# Altium integrated library NSC MiscPower.IntLib: 742 symbols (part 7 of 19)
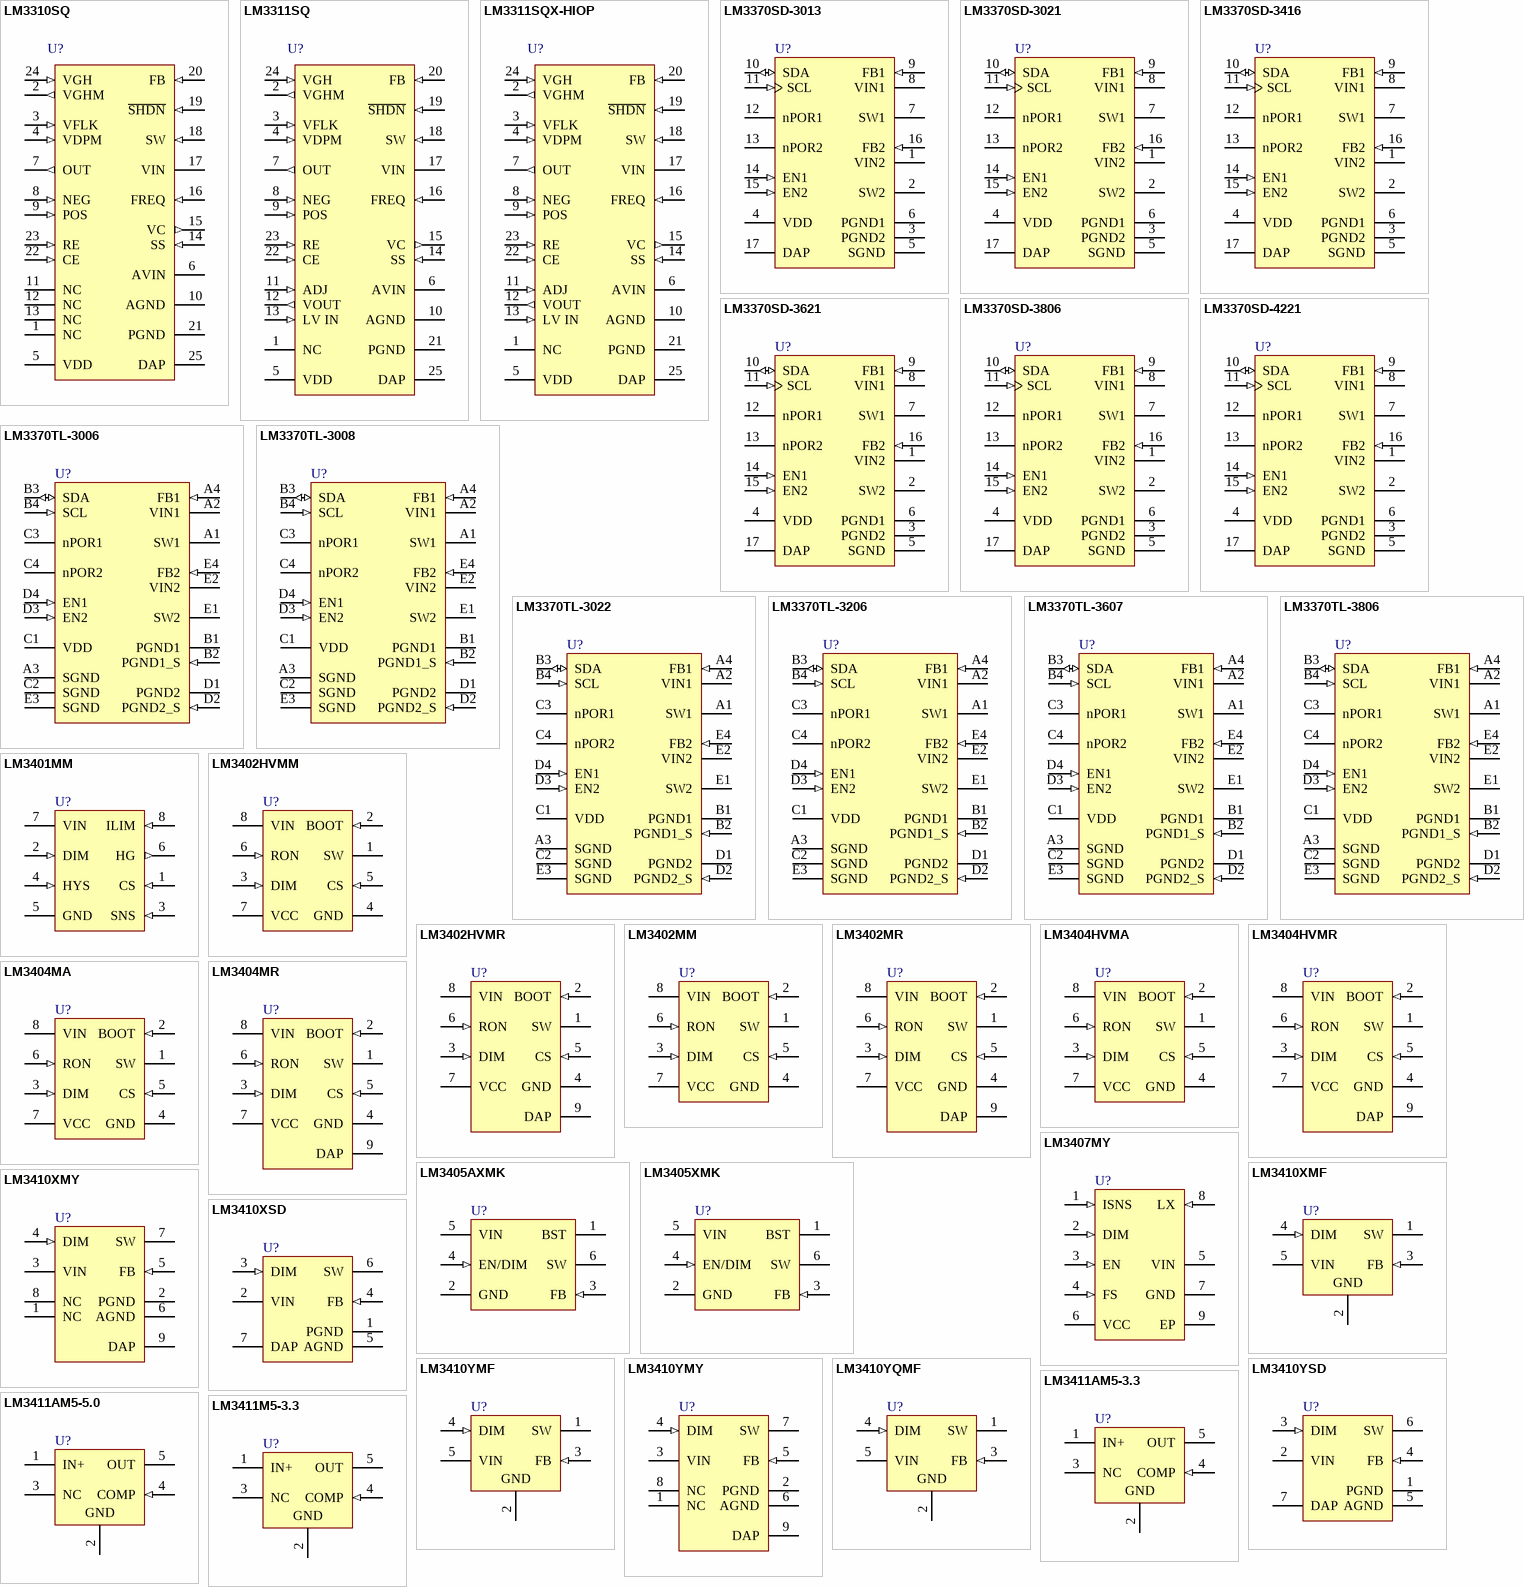
[diagram p31: symbols LM3310SQ to LM3411M5-3.3]

## LM3404HVMA
designator U?
1.0A Constant Current Buck Regulator for High Power LED Drivers; PartNumber: LM3404HVMA; Manufacturer: National Semiconductor; CompType: MiscPower; PackageTopMarking: NSZXTT*L3404*HVMA; PowerWise: Y; Published: 4-Dec-2008; DatasheetVersion: Jun-2007; PackageVersion: revL, Sep-2006; PackageReference: M08A; Publisher: Altium Limited; PackageDescription: SOIC Narrow, 4.9 x 3.9 x 1.45mm, 8 Lead, 1.27mm Pitch; RoHS: O; PinCount: 8; DigiKeyPartNumber: LM3404HVMA-ND; Code_JEDEC: MS-012-AA; Code_IPC: SOIC127P600-8; ComponentLink1Description: LM3404HV Datasheet; ComponentLink1URL: http://www.national.com/ds/LM/LM3404HV.pdf; ComponentLink2Description: LM3404HV Web Page; ComponentLink2URL: http://www.national.com/pf/LM/LM3404HV.html; ComponentLink3Description: M08A Package Page; ComponentLink3URL: http://www.national.com/packaging/folders/m08a.html
footprint M08A_N (SOIC, 8-Leads, Body 4.9x3.9mm, Pitch 1.27mm, IPC Medium Density)
footprint M08A_L (SOIC, 8-Leads, Body 4.9x3.9mm, Pitch 1.27mm, IPC High Density)
footprint M08A_M (SOIC, 8-Leads, Body 4.9x3.9mm, Pitch 1.27mm, IPC Low Density)
pins: 1 SW (power), 2 BOOT (in), 3 DIM (in), 4 GND (power), 5 CS (in), 6 RON (in), 7 VCC (power), 8 VIN (power)

## LM3404HVMR
designator U?
1.0A Constant Current Buck Regulator for High Power LED Drivers; PartNumber: LM3404HVMR; Manufacturer: National Semiconductor; CompType: MiscPower; PackageTopMarking: NSXYTT*L3404*HVMR; PowerWise: Y; Published: 4-Dec-2008; DatasheetVersion: Jun-2007; PackageVersion: revB, Dec-2007; PackageReference: MRA08B; Publisher: Altium Limited; PackageDescription: Molded, PSOP .193 x .154 x .058in, 8 Lead, .050in Pitch, Large DAP; RoHS: Y; PinCount: 8; DigiKeyPartNumber: LM3404HVMR-ND; Code_JEDEC: MS-012-AA; ComponentLink1Description: LM3404HV Datasheet; ComponentLink1URL: http://www.national.com/ds/LM/LM3404HV.pdf; ComponentLink2Description: LM3404HV Web Page; ComponentLink2URL: http://www.national.com/pf/LM/LM3404HV.html; ComponentLink3Description: MRA08B Package Page; ComponentLink3URL: http://www.national.com/packaging/folders/mra08b.html
footprint MRA08B_N (SOIC, 8-Leads, Body 4.9x3.9mm, Pitch 1.27mm, Exposed Pad, IPC Medium Density)
footprint MRA08B_L (SOIC, 8-Leads, Body 4.9x3.9mm, Pitch 1.27mm, Exposed Pad, IPC High Density)
footprint MRA08B_M (SOIC, 8-Leads, Body 4.9x3.9mm, Pitch 1.27mm, Exposed Pad, IPC Low Density)
pins: 1 SW (power), 2 BOOT (in), 3 DIM (in), 4 GND (power), 5 CS (in), 6 RON (in), 7 VCC (power), 8 VIN (power), 9 DAP (power)

## LM3404MA
designator U?
1.0A Constant Current Buck Regulator for High Power LED Drivers; PartNumber: LM3404MA; Manufacturer: National Semiconductor; CompType: MiscPower; PackageTopMarking: NSZXTT*L3404*MA; PowerWise: Y; Published: 4-Dec-2008; DatasheetVersion: Jun-2007; PackageVersion: revL, Sep-2006; PackageReference: M08A; Publisher: Altium Limited; PackageDescription: SOIC Narrow, 4.9 x 3.9 x 1.45mm, 8 Lead, 1.27mm Pitch; RoHS: O; PinCount: 8; DigiKeyPartNumber: LM3404MACT-ND; Code_JEDEC: MS-012-AA; Code_IPC: SOIC127P600-8; ComponentLink1Description: LM3404 Datasheet; ComponentLink1URL: http://www.national.com/ds/LM/LM3404.pdf; ComponentLink2Description: LM3404 Web Page; ComponentLink2URL: http://www.national.com/pf/LM/LM3404.html; ComponentLink3Description: M08A Package Page; ComponentLink3URL: http://www.national.com/packaging/folders/m08a.html
footprint M08A_N (SOIC, 8-Leads, Body 4.9x3.9mm, Pitch 1.27mm, IPC Medium Density)
footprint M08A_L (SOIC, 8-Leads, Body 4.9x3.9mm, Pitch 1.27mm, IPC High Density)
footprint M08A_M (SOIC, 8-Leads, Body 4.9x3.9mm, Pitch 1.27mm, IPC Low Density)
pins: 1 SW (power), 2 BOOT (in), 3 DIM (in), 4 GND (power), 5 CS (in), 6 RON (in), 7 VCC (power), 8 VIN (power)

## LM3404MR
designator U?
1.0A Constant Current Buck Regulator for High Power LED Drivers; PartNumber: LM3404MR; Manufacturer: National Semiconductor; CompType: MiscPower; PackageTopMarking: NSXYTT*L3404*MR; PowerWise: Y; Published: 4-Dec-2008; DatasheetVersion: Jun-2007; PackageVersion: revB, Dec-2007; PackageReference: MRA08B; Publisher: Altium Limited; PackageDescription: Molded, PSOP .193 x .154 x .058in, 8 Lead, .050in Pitch, Large DAP; RoHS: Y; PinCount: 8; DigiKeyPartNumber: LM3404MR-ND; Code_JEDEC: MS-012-AA; ComponentLink1Description: LM3404 Datasheet; ComponentLink1URL: http://www.national.com/ds/LM/LM3404.pdf; ComponentLink2Description: LM3404 Web Page; ComponentLink2URL: http://www.national.com/pf/LM/LM3404.html; ComponentLink3Description: MRA08B Package Page; ComponentLink3URL: http://www.national.com/packaging/folders/mra08b.html
footprint MRA08B_N (SOIC, 8-Leads, Body 4.9x3.9mm, Pitch 1.27mm, Exposed Pad, IPC Medium Density)
footprint MRA08B_L (SOIC, 8-Leads, Body 4.9x3.9mm, Pitch 1.27mm, Exposed Pad, IPC High Density)
footprint MRA08B_M (SOIC, 8-Leads, Body 4.9x3.9mm, Pitch 1.27mm, Exposed Pad, IPC Low Density)
pins: 1 SW (power), 2 BOOT (in), 3 DIM (in), 4 GND (power), 5 CS (in), 6 RON (in), 7 VCC (power), 8 VIN (power), 9 DAP (power)

## LM3405AXMK
designator U?
1.6MHz, 1A Constant Current Buck LED Driver with Internal Compensation in Tiny SOT23 Package; PartNumber: LM3405AXMK; Manufacturer: National Semiconductor; CompType: MiscPower; PackageTopMarking: SSEB*XTT; PowerWise: Y; Published: 4-Dec-2008; DatasheetVersion: Oct-2007; PackageVersion: revD, Jul-2005; PackageReference: MK06A; Publisher: Altium Limited; PackageDescription: Molded TSOT, 2.97 x 1.65 x 0.87mm Body, 6 Lead, 0.95mm Pitch; RoHS: Y; PinCount: 6; DigiKeyPartNumber: LM3405AXMKCT-ND; Code_JEDEC: MO-193-AA; Code_IPC: SOT26A-6; ComponentLink1Description: LM3405A Datasheet; ComponentLink1URL: http://www.national.com/ds/LM/LM3405A.pdf; ComponentLink2Description: LM3405A Web Page; ComponentLink2URL: http://www.national.com/pf/LM/LM3405A.html; ComponentLink3Description: MK06A Package Page; ComponentLink3URL: http://www.national.com/packaging/folders/mk06a.html
footprint MK06A_N (SOT23, 6-Leads, Body 3.0x1.7mm, Pitch 0.95mm, Lead Span 2.9mm, IPC Medium Density)
footprint MK06A_L (SOT23, 6-Leads, Body 3.0x1.7mm, Pitch 0.95mm, Lead Span 2.9mm, IPC High Density)
footprint MK06A_M (SOT23, 6-Leads, Body 3.0x1.7mm, Pitch 0.95mm, Lead Span 2.9mm, IPC Low Density)
pins: 1 BST, 2 GND (power), 3 FB (in), 4 EN/DIM (in), 5 VIN (power), 6 SW (power)

## LM3405XMK
designator U?
1.6MHz 1A Constant Current Buck Regulator for Powering LEDs; PartNumber: LM3405XMK; Manufacturer: National Semiconductor; CompType: MiscPower; PackageTopMarking: SPNB*XTT; PowerWise: Y; Published: 4-Dec-2008; DatasheetVersion: Feb-2007; PackageVersion: revD, Jul-2005; PackageReference: MK06A; Publisher: Altium Limited; PackageDescription: Molded TSOT, 2.97 x 1.65 x 0.87mm Body, 6 Lead, 0.95mm Pitch; RoHS: Y; PinCount: 6; DigiKeyPartNumber: LM3405XMKCT-ND; Code_JEDEC: MO-193-AA; Code_IPC: SOT26A-6; ComponentLink1Description: LM3405 Datasheet; ComponentLink1URL: http://www.national.com/ds/LM/LM3405.pdf; ComponentLink2Description: LM3405 Web Page; ComponentLink2URL: http://www.national.com/pf/LM/LM3405.html; ComponentLink3Description: MK06A Package Page; ComponentLink3URL: http://www.national.com/packaging/folders/mk06a.html
footprint MK06A_N (SOT23, 6-Leads, Body 3.0x1.7mm, Pitch 0.95mm, Lead Span 2.9mm, IPC Medium Density)
footprint MK06A_L (SOT23, 6-Leads, Body 3.0x1.7mm, Pitch 0.95mm, Lead Span 2.9mm, IPC High Density)
footprint MK06A_M (SOT23, 6-Leads, Body 3.0x1.7mm, Pitch 0.95mm, Lead Span 2.9mm, IPC Low Density)
pins: 1 BST, 2 GND (power), 3 FB (in), 4 EN/DIM (in), 5 VIN (power), 6 SW (power)

## LM3407MY
designator U?
350 mA, Constant Current Output Floating Buck Switching Converter for High Power LEDs; PartNumber: LM3407MY; Manufacturer: National Semiconductor; CompType: MiscPower; PackageTopMarking: ZXTT*STZB; PowerWise: Y; Published: 4-Dec-2008; DatasheetVersion: Jan-2008; PackageVersion: revA, Nov-2003; PackageReference: MUY08A; Publisher: Altium Limited; PackageDescription: Molded Mini-SO, Exposed Pad, .118 x .118 x .034in Body, 8 Lead, .0256in Pitch; RoHS: Y; PinCount: 8; DigiKeyPartNumber: LM3407MY-ND; Code_JEDEC: MO-187-AA; ComponentLink1Description: LM3407 Datasheet; ComponentLink1URL: http://www.national.com/ds/LM/LM3407.pdf; ComponentLink2Description: LM3407 Web Page; ComponentLink2URL: http://www.national.com/pf/LM/LM3407.html; ComponentLink3Description: MUY08A Package Page; ComponentLink3URL: http://www.national.com/packaging/folders/muy08a.html
footprint MUY08A_N (TSOP, 8-Leads, Body 3x3mm, Pitch 0.65mm, Exposed Pad, IPC Medium Density)
footprint MUY08A_L (TSOP, 8-Leads, Body 3x3mm, Pitch 0.65mm, Exposed Pad, IPC High Density)
footprint MUY08A_M (TSOP, 8-Leads, Body 3x3mm, Pitch 0.65mm, Exposed Pad, IPC Low Density)
pins: 1 ISNS (in), 2 DIM (in), 3 EN (in), 4 FS (in), 5 VIN (power), 6 VCC (power), 7 GND (power), 8 LX (in), 9 EP (power)

## LM3410XMF
designator U?
PowerWise 525kHz/1.6MHz, Constant Current Boost and SEPIC LED Driver with Internal Compensation; PartNumber: LM3410XMF; Manufacturer: National Semiconductor; CompType: MiscPower; PackageTopMarking: SSVB*XTT; PowerWise: Y; Published: 4-Dec-2008; DatasheetVersion: Mar-2009; PackageVersion: revD, Aug-2008; PackageReference: MF05A; Publisher: Altium Limited; PackageDescription: Molded SOT-23, .115 x .063 x .040 in Body, 5 Lead, .0375 in Pitch; RoHS: Y; PinCount: 5; DigiKeyPartNumber: LM3410XMFCT-ND; ComponentLink1Description: LM3410 Datasheet; ComponentLink1URL: http://www.national.com/ds/LM/LM3410.pdf; ComponentLink2Description: LM3410 Web Page; ComponentLink2URL: http://www.national.com/pf/LM/LM3410.html; ComponentLink3Description: MF05A Package Page; ComponentLink3URL: http://www.national.com/packaging/folders/mf05a.html
footprint MF05A_N (SOT23, 5-Leads, Body 2.9x1.6mm, Pitch 0.95mm, Lead Span 2.8mm, IPC Medium Density)
footprint MF05A_L (SOT23, 5-Leads, Body 2.9x1.6mm, Pitch 0.95mm, Lead Span 2.8mm, IPC High Density)
footprint MF05A_M (SOT23, 5-Leads, Body 2.9x1.6mm, Pitch 0.95mm, Lead Span 2.8mm, IPC Low Density)
pins: 1 SW (power), 2 GND (power), 3 FB (in), 4 DIM (in), 5 VIN (power)

## LM3410XMY
designator U?
PowerWise 525kHz/1.6MHz, Constant Current Boost and SEPIC LED Driver with Internal Compensation; PartNumber: LM3410XMY; Manufacturer: National Semiconductor; CompType: MiscPower; PackageTopMarking: ZXTT*SSXB; PowerWise: Y; Published: 4-Dec-2008; DatasheetVersion: Mar-2009; PackageVersion: revA, Nov-2003; PackageReference: MUY08A; Publisher: Altium Limited; PackageDescription: Molded Mini-SO, Exposed Pad, .118 x .118 x .034in Body, 8 Lead, .0256in Pitch; RoHS: Y; PinCount: 8; DigiKeyPartNumber: LM3410XMY-ND; Code_JEDEC: MO-187-AA; ComponentLink1Description: LM3410 Datasheet; ComponentLink1URL: http://www.national.com/ds/LM/LM3410.pdf; ComponentLink2Description: LM3410 Web Page; ComponentLink2URL: http://www.national.com/pf/LM/LM3410.html; ComponentLink3Description: MUY08A Package Page; ComponentLink3URL: http://www.national.com/packaging/folders/muy08a.html
footprint MUY08A_N (TSOP, 8-Leads, Body 3x3mm, Pitch 0.65mm, Exposed Pad, IPC Medium Density)
footprint MUY08A_L (TSOP, 8-Leads, Body 3x3mm, Pitch 0.65mm, Exposed Pad, IPC High Density)
footprint MUY08A_M (TSOP, 8-Leads, Body 3x3mm, Pitch 0.65mm, Exposed Pad, IPC Low Density)
pins: 1 NC, 2 PGND (power), 3 VIN (power), 4 DIM (in), 5 FB (in), 6 AGND (power), 7 SW (power), 8 NC, 9 DAP (power)

## LM3410XSD
designator U?
PowerWise 525kHz/1.6MHz, Constant Current Boost and SEPIC LED Driver with Internal Compensation; PartNumber: LM3410XSD; Manufacturer: National Semiconductor; CompType: MiscPower; PackageTopMarking: ZXYTT*3410X; PowerWise: Y; Published: 4-Dec-2008; DatasheetVersion: Mar-2009; PackageVersion: revA, Jul-2003; PackageReference: SDE06A; Publisher: Altium Limited; PackageDescription: LLP, Plastic, Dual, 3 x 3 x 0.8mm Body, 6 Lead, 0.95mm Pitch, No Pullback; RoHS: Y; PinCount: 6; DigiKeyPartNumber: LM3410XSDCT-ND; ComponentLink1Description: LM3410 Datasheet; ComponentLink1URL: http://www.national.com/ds/LM/LM3410.pdf; ComponentLink2Description: LM3410 Web Page; ComponentLink2URL: http://www.national.com/pf/LM/LM3410.html; ComponentLink3Description: SDE06A Package Page; ComponentLink3URL: http://www.national.com/packaging/folders/sde06a.html
footprint SDE06A_full (SON, 6-Leads, Body 3x3 mm, Pitch 0.95mm, Full Paste, NSC Recommended)
footprint SDE06A_quad (SON, 6-Leads, Body 3x3 mm, Pitch 0.95mm, Quad Paste, NSC Recommended)
pins: 1 PGND (power), 2 VIN (power), 3 DIM (in), 4 FB (in), 5 AGND (power), 6 SW (power), 7 DAP (power)

## LM3410YMF
designator U?
PowerWise 525kHz/1.6MHz, Constant Current Boost and SEPIC LED Driver with Internal Compensation; PartNumber: LM3410YMF; Manufacturer: National Semiconductor; CompType: MiscPower; PackageTopMarking: SSZB*XTT; PowerWise: Y; Published: 4-Dec-2008; DatasheetVersion: Mar-2009; PackageVersion: revD, Aug-2008; PackageReference: MF05A; Publisher: Altium Limited; PackageDescription: Molded SOT-23, .115 x .063 x .040 in Body, 5 Lead, .0375 in Pitch; RoHS: Y; PinCount: 5; DigiKeyPartNumber: LM3410YMFCT-ND; ComponentLink1Description: LM3410 Datasheet; ComponentLink1URL: http://www.national.com/ds/LM/LM3410.pdf; ComponentLink2Description: LM3410 Web Page; ComponentLink2URL: http://www.national.com/pf/LM/LM3410.html; ComponentLink3Description: MF05A Package Page; ComponentLink3URL: http://www.national.com/packaging/folders/mf05a.html
footprint MF05A_N (SOT23, 5-Leads, Body 2.9x1.6mm, Pitch 0.95mm, Lead Span 2.8mm, IPC Medium Density)
footprint MF05A_L (SOT23, 5-Leads, Body 2.9x1.6mm, Pitch 0.95mm, Lead Span 2.8mm, IPC High Density)
footprint MF05A_M (SOT23, 5-Leads, Body 2.9x1.6mm, Pitch 0.95mm, Lead Span 2.8mm, IPC Low Density)
pins: 1 SW (power), 2 GND (power), 3 FB (in), 4 DIM (in), 5 VIN (power)

## LM3410YMY
designator U?
PowerWise 525kHz/1.6MHz, Constant Current Boost and SEPIC LED Driver with Internal Compensation; PartNumber: LM3410YMY; Manufacturer: National Semiconductor; CompType: MiscPower; PackageTopMarking: ZXTT*STAB; PowerWise: Y; Published: 4-Dec-2008; DatasheetVersion: Mar-2009; PackageVersion: revA, Nov-2003; PackageReference: MUY08A; Publisher: Altium Limited; PackageDescription: Molded Mini-SO, Exposed Pad, .118 x .118 x .034in Body, 8 Lead, .0256in Pitch; RoHS: Y; PinCount: 8; DigiKeyPartNumber: LM3410YMY-ND; Code_JEDEC: MO-187-AA; ComponentLink1Description: LM3410 Datasheet; ComponentLink1URL: http://www.national.com/ds/LM/LM3410.pdf; ComponentLink2Description: LM3410 Web Page; ComponentLink2URL: http://www.national.com/pf/LM/LM3410.html; ComponentLink3Description: MUY08A Package Page; ComponentLink3URL: http://www.national.com/packaging/folders/muy08a.html
footprint MUY08A_N (TSOP, 8-Leads, Body 3x3mm, Pitch 0.65mm, Exposed Pad, IPC Medium Density)
footprint MUY08A_L (TSOP, 8-Leads, Body 3x3mm, Pitch 0.65mm, Exposed Pad, IPC High Density)
footprint MUY08A_M (TSOP, 8-Leads, Body 3x3mm, Pitch 0.65mm, Exposed Pad, IPC Low Density)
pins: 1 NC, 2 PGND (power), 3 VIN (power), 4 DIM (in), 5 FB (in), 6 AGND (power), 7 SW (power), 8 NC, 9 DAP (power)

## LM3410YQMF
designator U?
PowerWise 525kHz/1.6MHz, Constant Current Boost and SEPIC LED Driver with Internal Compensation, Automotive Grade 1; PartNumber: LM3410YQMF; Manufacturer: National Semiconductor; CompType: MiscPower; PackageTopMarking: SXXB*XTT; PowerWise: N; Published: 29-May-2009; DatasheetVersion: Mar-2009; PackageVersion: revD, Aug-2008; PackageReference: MF05A; Publisher: Altium Limited; PackageDescription: Molded SOT-23, .115 x .063 x .040 in Body, 5 Lead, .0375 in Pitch; RoHS: Y; PinCount: 5; ComponentLink1Description: LM3410 Datasheet; ComponentLink1URL: http://www.national.com/ds/LM/LM3410.pdf; ComponentLink2Description: LM3410 Web Page; ComponentLink2URL: http://www.national.com/pf/LM/LM3410.html; ComponentLink3Description: MF05A Package Page; ComponentLink3URL: http://www.national.com/packaging/folders/mf05a.html
footprint MF05A_N (SOT23, 5-Leads, Body 2.9x1.6mm, Pitch 0.95mm, Lead Span 2.8mm, IPC Medium Density)
footprint MF05A_L (SOT23, 5-Leads, Body 2.9x1.6mm, Pitch 0.95mm, Lead Span 2.8mm, IPC High Density)
footprint MF05A_M (SOT23, 5-Leads, Body 2.9x1.6mm, Pitch 0.95mm, Lead Span 2.8mm, IPC Low Density)
pins: 1 SW (power), 2 GND (power), 3 FB (in), 4 DIM (in), 5 VIN (power)

## LM3410YSD
designator U?
PowerWise 525kHz/1.6MHz, Constant Current Boost and SEPIC LED Driver with Internal Compensation; PartNumber: LM3410YSD; Manufacturer: National Semiconductor; CompType: MiscPower; PackageTopMarking: ZXYTT*3410Y; PowerWise: Y; Published: 4-Dec-2008; DatasheetVersion: Mar-2009; PackageVersion: revA, Jul-2003; PackageReference: SDE06A; Publisher: Altium Limited; PackageDescription: LLP, Plastic, Dual, 3 x 3 x 0.8mm Body, 6 Lead, 0.95mm Pitch, No Pullback; RoHS: Y; PinCount: 6; DigiKeyPartNumber: LM3410YSDCT-ND; ComponentLink1Description: LM3410 Datasheet; ComponentLink1URL: http://www.national.com/ds/LM/LM3410.pdf; ComponentLink2Description: LM3410 Web Page; ComponentLink2URL: http://www.national.com/pf/LM/LM3410.html; ComponentLink3Description: SDE06A Package Page; ComponentLink3URL: http://www.national.com/packaging/folders/sde06a.html
footprint SDE06A_full (SON, 6-Leads, Body 3x3 mm, Pitch 0.95mm, Full Paste, NSC Recommended)
footprint SDE06A_quad (SON, 6-Leads, Body 3x3 mm, Pitch 0.95mm, Quad Paste, NSC Recommended)
pins: 1 PGND (power), 2 VIN (power), 3 DIM (in), 4 FB (in), 5 AGND (power), 6 SW (power), 7 DAP (power)

## LM3411AM5-3.3
designator U?
Precision Secondary Regulator/Driver; PartNumber: LM3411AM5-3.3; Manufacturer: National Semiconductor; CompType: MiscPower; PackageTopMarking: D00A*XTT; PowerWise: N; Published: 4-Dec-2008; DatasheetVersion: Mar-2005; PackageVersion: revD, Aug-2008; PackageReference: MF05A; Publisher: Altium Limited; PackageDescription: Molded SOT-23, .115 x .063 x .040 in Body, 5 Lead, .0375 in Pitch; RoHS: Y; PinCount: 5; DigiKeyPartNumber: LM3411AM5-3.3CT-ND; ComponentLink1Description: LM3411 Datasheet; ComponentLink1URL: http://www.national.com/ds/LM/LM3411.pdf; ComponentLink2Description: LM3411 Web Page; ComponentLink2URL: http://www.national.com/pf/LM/LM3411.html; ComponentLink3Description: MF05A Package Page; ComponentLink3URL: http://www.national.com/packaging/folders/mf05a.html
footprint MF05A_N (SOT23, 5-Leads, Body 2.9x1.6mm, Pitch 0.95mm, Lead Span 2.8mm, IPC Medium Density)
footprint MF05A_L (SOT23, 5-Leads, Body 2.9x1.6mm, Pitch 0.95mm, Lead Span 2.8mm, IPC High Density)
footprint MF05A_M (SOT23, 5-Leads, Body 2.9x1.6mm, Pitch 0.95mm, Lead Span 2.8mm, IPC Low Density)
pins: 1 IN+ (power), 2 GND (power), 3 NC, 4 COMP (in), 5 OUT (power)

## LM3411AM5-5.0
designator U?
Precision Secondary Regulator/Driver; PartNumber: LM3411AM5-5.0; Manufacturer: National Semiconductor; CompType: MiscPower; PackageTopMarking: D01A*XTT; PowerWise: N; Published: 4-Dec-2008; DatasheetVersion: Mar-2005; PackageVersion: revD, Aug-2008; PackageReference: MF05A; Publisher: Altium Limited; PackageDescription: Molded SOT-23, .115 x .063 x .040 in Body, 5 Lead, .0375 in Pitch; RoHS: O; PinCount: 5; DigiKeyPartNumber: LM3411AM5-5.0CT-ND; ComponentLink1Description: LM3411 Datasheet; ComponentLink1URL: http://www.national.com/ds/LM/LM3411.pdf; ComponentLink2Description: LM3411 Web Page; ComponentLink2URL: http://www.national.com/pf/LM/LM3411.html; ComponentLink3Description: MF05A Package Page; ComponentLink3URL: http://www.national.com/packaging/folders/mf05a.html
footprint MF05A_N (SOT23, 5-Leads, Body 2.9x1.6mm, Pitch 0.95mm, Lead Span 2.8mm, IPC Medium Density)
footprint MF05A_L (SOT23, 5-Leads, Body 2.9x1.6mm, Pitch 0.95mm, Lead Span 2.8mm, IPC High Density)
footprint MF05A_M (SOT23, 5-Leads, Body 2.9x1.6mm, Pitch 0.95mm, Lead Span 2.8mm, IPC Low Density)
pins: 1 IN+ (power), 2 GND (power), 3 NC, 4 COMP (in), 5 OUT (power)

## LM3411M5-3.3
designator U?
Precision Secondary Regulator/Driver; PartNumber: LM3411M5-3.3; Manufacturer: National Semiconductor; CompType: MiscPower; PackageTopMarking: D00B*XTT; PowerWise: N; Published: 4-Dec-2008; DatasheetVersion: Mar-2005; PackageVersion: revD, Aug-2008; PackageReference: MF05A; Publisher: Altium Limited; PackageDescription: Molded SOT-23, .115 x .063 x .040 in Body, 5 Lead, .0375 in Pitch; RoHS: O; PinCount: 5; DigiKeyPartNumber: LM3411M5-3.3CT-ND; ComponentLink1Description: LM3411 Datasheet; ComponentLink1URL: http://www.national.com/ds/LM/LM3411.pdf; ComponentLink2Description: LM3411 Web Page; ComponentLink2URL: http://www.national.com/pf/LM/LM3411.html; ComponentLink3Description: MF05A Package Page; ComponentLink3URL: http://www.national.com/packaging/folders/mf05a.html
footprint MF05A_N (SOT23, 5-Leads, Body 2.9x1.6mm, Pitch 0.95mm, Lead Span 2.8mm, IPC Medium Density)
footprint MF05A_L (SOT23, 5-Leads, Body 2.9x1.6mm, Pitch 0.95mm, Lead Span 2.8mm, IPC High Density)
footprint MF05A_M (SOT23, 5-Leads, Body 2.9x1.6mm, Pitch 0.95mm, Lead Span 2.8mm, IPC Low Density)
pins: 1 IN+ (power), 2 GND (power), 3 NC, 4 COMP (in), 5 OUT (power)

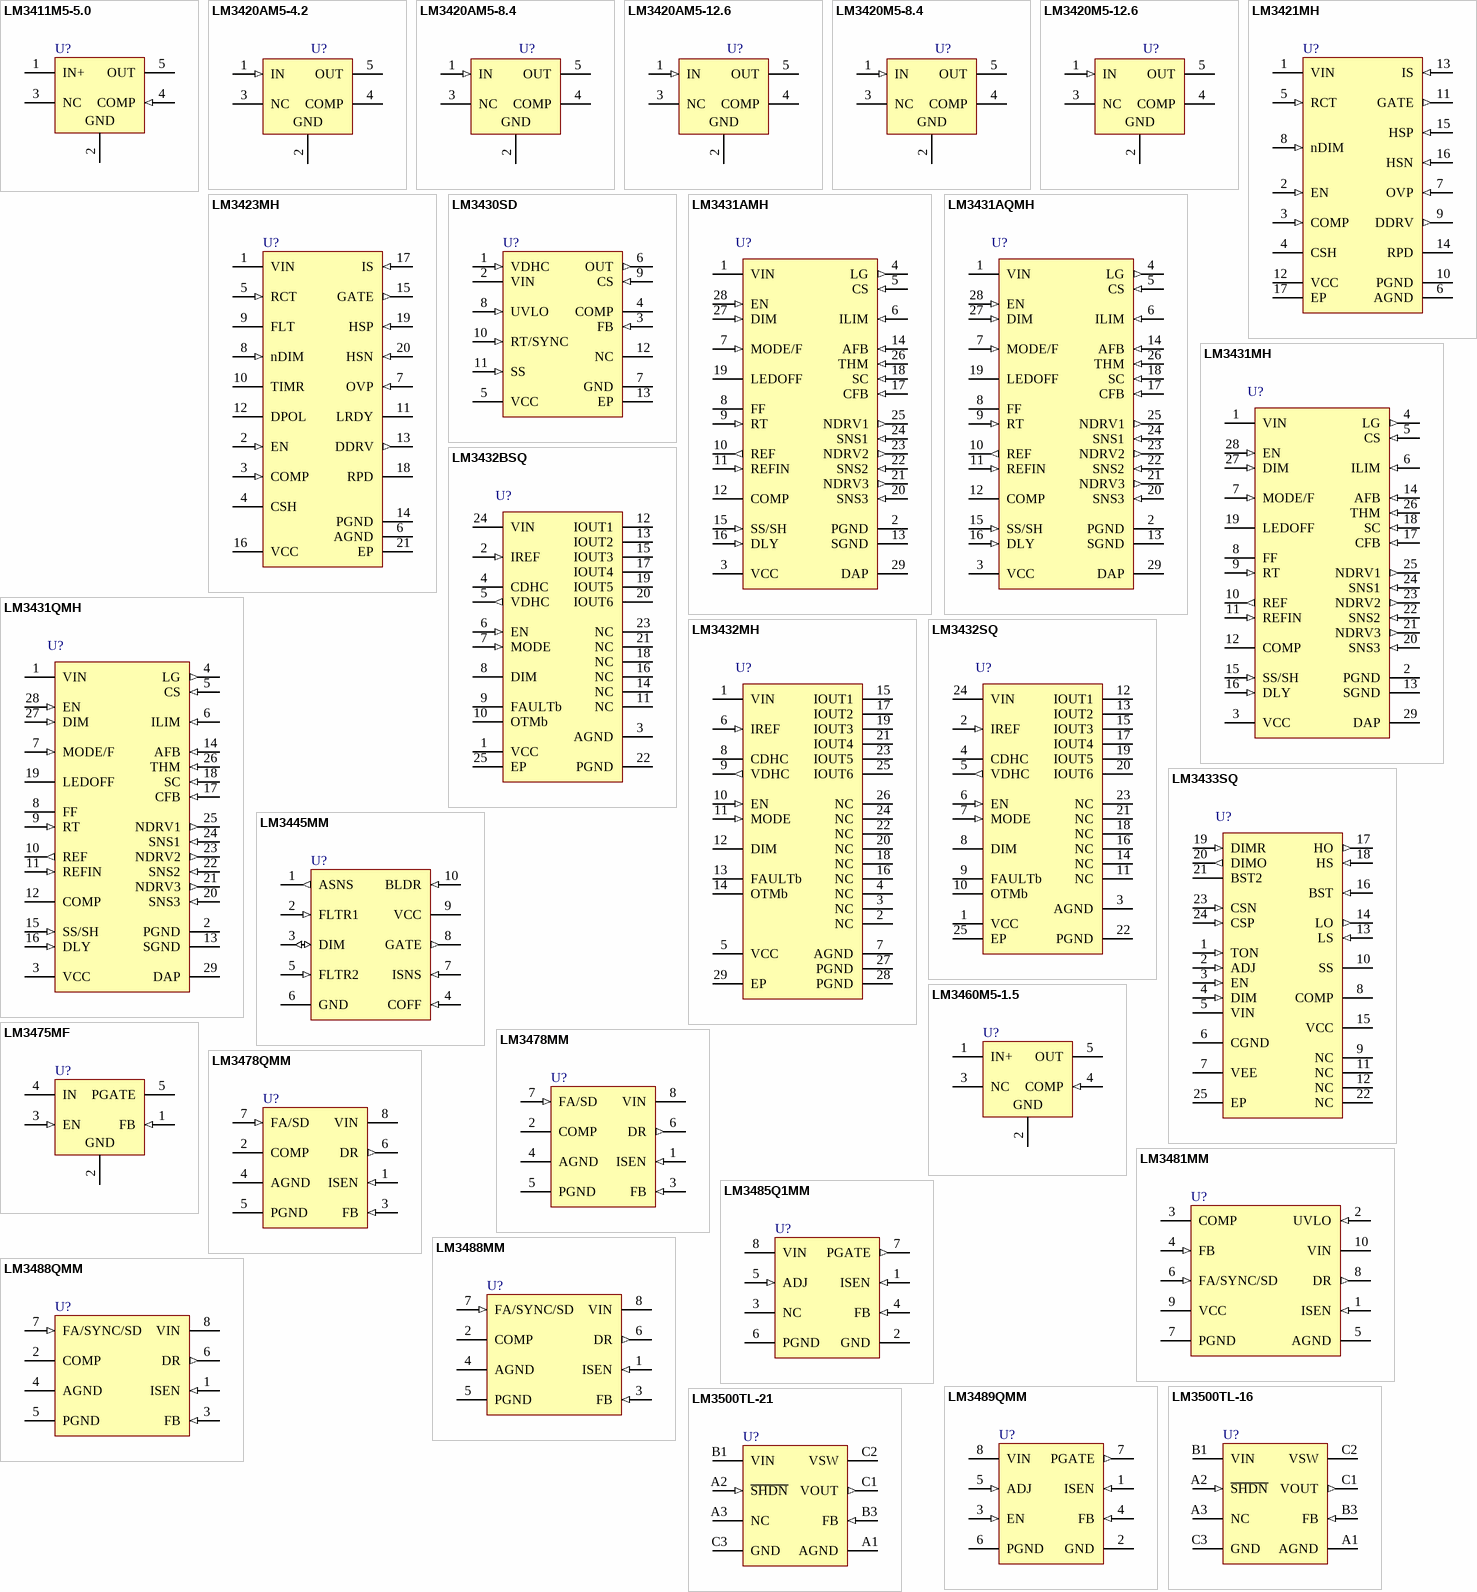
[diagram p8: symbols LM3411M5-5.0 to LM3500TL-21]

## LM3411M5-5.0
designator U?
Precision Secondary Regulator/Driver; PartNumber: LM3411M5-5.0; Manufacturer: National Semiconductor; CompType: MiscPower; PackageTopMarking: D01B*XTT; PowerWise: N; Published: 4-Dec-2008; DatasheetVersion: Mar-2005; PackageVersion: revD, Aug-2008; PackageReference: MF05A; Publisher: Altium Limited; PackageDescription: Molded SOT-23, .115 x .063 x .040 in Body, 5 Lead, .0375 in Pitch; RoHS: O; PinCount: 5; DigiKeyPartNumber: LM3411M5-5.0CT-ND; ComponentLink1Description: LM3411 Datasheet; ComponentLink1URL: http://www.national.com/ds/LM/LM3411.pdf; ComponentLink2Description: LM3411 Web Page; ComponentLink2URL: http://www.national.com/pf/LM/LM3411.html; ComponentLink3Description: MF05A Package Page; ComponentLink3URL: http://www.national.com/packaging/folders/mf05a.html
footprint MF05A_N (SOT23, 5-Leads, Body 2.9x1.6mm, Pitch 0.95mm, Lead Span 2.8mm, IPC Medium Density)
footprint MF05A_L (SOT23, 5-Leads, Body 2.9x1.6mm, Pitch 0.95mm, Lead Span 2.8mm, IPC High Density)
footprint MF05A_M (SOT23, 5-Leads, Body 2.9x1.6mm, Pitch 0.95mm, Lead Span 2.8mm, IPC Low Density)
pins: 1 IN+ (power), 2 GND (power), 3 NC, 4 COMP (in), 5 OUT (power)

## LM3420AM5-4.2
designator U?
Lithium-Ion Battery Charge Controller; PartNumber: LM3420AM5-4.2; Manufacturer: National Semiconductor; CompType: MiscPower; PackageTopMarking: D02A*XTT; Published: 4-Dec-2008; DatasheetVersion: Jul-2000; PackageVersion: revD, Aug-2008; PackageReference: MF05A; Publisher: Altium Limited; PackageDescription: Molded SOT-23, .115 x .063 x .040 in Body, 5 Lead, .0375 in Pitch; RoHS: Y; PinCount: 5; DigiKeyPartNumber: LM3420AM5-4.2CT-ND; ComponentLink1Description: LM3420 Datasheet; ComponentLink1URL: http://www.national.com/ds/LM/LM3420.pdf; ComponentLink2Description: LM3420 Web Page; ComponentLink2URL: http://www.national.com/pf/LM/LM3420.html; ComponentLink3Description: MF05A Package Page; ComponentLink3URL: http://www.national.com/packaging/folders/mf05a.html
footprint MF05A_N (SOT23, 5-Leads, Body 2.9x1.6mm, Pitch 0.95mm, Lead Span 2.8mm, IPC Medium Density)
footprint MF05A_L (SOT23, 5-Leads, Body 2.9x1.6mm, Pitch 0.95mm, Lead Span 2.8mm, IPC High Density)
footprint MF05A_M (SOT23, 5-Leads, Body 2.9x1.6mm, Pitch 0.95mm, Lead Span 2.8mm, IPC Low Density)
pins: 1 IN (in), 2 GND (power), 3 NC, 4 COMP, 5 OUT (oe)

## LM3420AM5-8.4
designator U?
Lithium-Ion Battery Charge Controller; PartNumber: LM3420AM5-8.4; Manufacturer: National Semiconductor; CompType: MiscPower; PackageTopMarking: D03A*XTT; PowerWise: N; Published: 4-Dec-2008; DatasheetVersion: Jul-2000; PackageVersion: revD, Aug-2008; PackageReference: MF05A; Publisher: Altium Limited; PackageDescription: Molded SOT-23, .115 x .063 x .040 in Body, 5 Lead, .0375 in Pitch; RoHS: Y; PinCount: 5; DigiKeyPartNumber: LM3420AM5-8.4CT-ND; ComponentLink1Description: LM3420 Datasheet; ComponentLink1URL: http://www.national.com/ds/LM/LM3420.pdf; ComponentLink2Description: LM3420 Web Page; ComponentLink2URL: http://www.national.com/pf/LM/LM3420.html; ComponentLink3Description: MF05A Package Page; ComponentLink3URL: http://www.national.com/packaging/folders/mf05a.html
footprint MF05A_N (SOT23, 5-Leads, Body 2.9x1.6mm, Pitch 0.95mm, Lead Span 2.8mm, IPC Medium Density)
footprint MF05A_L (SOT23, 5-Leads, Body 2.9x1.6mm, Pitch 0.95mm, Lead Span 2.8mm, IPC High Density)
footprint MF05A_M (SOT23, 5-Leads, Body 2.9x1.6mm, Pitch 0.95mm, Lead Span 2.8mm, IPC Low Density)
pins: 1 IN (in), 2 GND (power), 3 NC, 4 COMP, 5 OUT (oe)

## LM3420AM5-12.6
designator U?
Lithium-Ion Battery Charge Controller; PartNumber: LM3420AM5-12.6; Manufacturer: National Semiconductor; CompType: MiscPower; PackageTopMarking: D04A*XTT; Published: 4-Dec-2008; DatasheetVersion: Jul-2000; PackageVersion: revD, Aug-2008; PackageReference: MF05A; Publisher: Altium Limited; PackageDescription: Molded SOT-23, .115 x .063 x .040 in Body, 5 Lead, .0375 in Pitch; RoHS: Y; PinCount: 5; DigiKeyPartNumber: LM3420AM5-12.6CT-ND; ComponentLink1Description: LM3420 Datasheet; ComponentLink1URL: http://www.national.com/ds/LM/LM3420.pdf; ComponentLink2Description: LM3420 Web Page; ComponentLink2URL: http://www.national.com/pf/LM/LM3420.html; ComponentLink3Description: MF05A Package Page; ComponentLink3URL: http://www.national.com/packaging/folders/mf05a.html
footprint MF05A_N (SOT23, 5-Leads, Body 2.9x1.6mm, Pitch 0.95mm, Lead Span 2.8mm, IPC Medium Density)
footprint MF05A_L (SOT23, 5-Leads, Body 2.9x1.6mm, Pitch 0.95mm, Lead Span 2.8mm, IPC High Density)
footprint MF05A_M (SOT23, 5-Leads, Body 2.9x1.6mm, Pitch 0.95mm, Lead Span 2.8mm, IPC Low Density)
pins: 1 IN (in), 2 GND (power), 3 NC, 4 COMP, 5 OUT (oe)

## LM3420M5-8.4
designator U?
Lithium-Ion Battery Charge Controller; PartNumber: LM3420M5-8.4; Manufacturer: National Semiconductor; CompType: MiscPower; PackageTopMarking: D03B*XTT; Published: 4-Dec-2008; DatasheetVersion: Jul-2000; PackageVersion: revD, Aug-2008; PackageReference: MF05A; Publisher: Altium Limited; PackageDescription: Molded SOT-23, .115 x .063 x .040 in Body, 5 Lead, .0375 in Pitch; RoHS: Y; PinCount: 5; DigiKeyPartNumber: LM3420M5-8.4CT-ND; ComponentLink1Description: LM3420 Datasheet; ComponentLink1URL: http://www.national.com/ds/LM/LM3420.pdf; ComponentLink2Description: LM3420 Web Page; ComponentLink2URL: http://www.national.com/pf/LM/LM3420.html; ComponentLink3Description: MF05A Package Page; ComponentLink3URL: http://www.national.com/packaging/folders/mf05a.html
footprint MF05A_N (SOT23, 5-Leads, Body 2.9x1.6mm, Pitch 0.95mm, Lead Span 2.8mm, IPC Medium Density)
footprint MF05A_L (SOT23, 5-Leads, Body 2.9x1.6mm, Pitch 0.95mm, Lead Span 2.8mm, IPC High Density)
footprint MF05A_M (SOT23, 5-Leads, Body 2.9x1.6mm, Pitch 0.95mm, Lead Span 2.8mm, IPC Low Density)
pins: 1 IN (in), 2 GND (power), 3 NC, 4 COMP, 5 OUT (oe)

## LM3420M5-12.6
designator U?
Lithium-Ion Battery Charge Controller; PartNumber: LM3420M5-12.6; Manufacturer: National Semiconductor; CompType: MiscPower; PackageTopMarking: D04B*XTT; Published: 4-Dec-2008; DatasheetVersion: Jul-2000; PackageVersion: revD, Aug-2008; PackageReference: MF05A; Publisher: Altium Limited; PackageDescription: Molded SOT-23, .115 x .063 x .040 in Body, 5 Lead, .0375 in Pitch; RoHS: Y; PinCount: 5; DigiKeyPartNumber: LM3420M5-12.6CT-ND; ComponentLink1Description: LM3420 Datasheet; ComponentLink1URL: http://www.national.com/ds/LM/LM3420.pdf; ComponentLink2Description: LM3420 Web Page; ComponentLink2URL: http://www.national.com/pf/LM/LM3420.html; ComponentLink3Description: MF05A Package Page; ComponentLink3URL: http://www.national.com/packaging/folders/mf05a.html
footprint MF05A_N (SOT23, 5-Leads, Body 2.9x1.6mm, Pitch 0.95mm, Lead Span 2.8mm, IPC Medium Density)
footprint MF05A_L (SOT23, 5-Leads, Body 2.9x1.6mm, Pitch 0.95mm, Lead Span 2.8mm, IPC High Density)
footprint MF05A_M (SOT23, 5-Leads, Body 2.9x1.6mm, Pitch 0.95mm, Lead Span 2.8mm, IPC Low Density)
pins: 1 IN (in), 2 GND (power), 3 NC, 4 COMP, 5 OUT (oe)

## LM3421MH
designator U?
N-Channel Controllers for Constant Current LED Drivers; PartNumber: LM3421MH; Manufacturer: National Semiconductor; CompType: MiscPower; PackageTopMarking: NSUZXYTT*LM3421*MH; PowerWise: Y; Published: 4-Dec-2008; DatasheetVersion: Jul-2008; PackageVersion: revA, Apr-2003; PackageReference: MXA16A; Publisher: Altium Limited; PackageDescription: Molded TSSOP, Jedec, Exposed Pad, 5.0 x 4.4 x 0.9mm Body,16 Lead, 0.65mm Pitch; RoHS: Y; PinCount: 16; DigiKeyPartNumber: LM3421MH-ND; Code_JEDEC: MO-153-ABT; ComponentLink1Description: LM3421 Datasheet; ComponentLink1URL: http://www.national.com/ds/LM/LM3421.pdf; ComponentLink2Description: LM3421 Web Page; ComponentLink2URL: http://www.national.com/pf/LM/LM3421.html; ComponentLink3Description: MXA16A Package Page; ComponentLink3URL: http://www.national.com/packaging/folders/mxa16a.html
footprint MXA16A_N (TSOP, 16-Leads, Body 5x4.4mm, Pitch 0.65mm, Exposed Pad, IPC Medium Density)
footprint MXA16A_L (TSOP, 16-Leads, Body 5x4.4mm, Pitch 0.65mm, Exposed Pad, IPC High Density)
footprint MXA16A_M (TSOP, 16-Leads, Body 5x4.4mm, Pitch 0.65mm, Exposed Pad, IPC Low Density)
pins: 1 VIN (power), 2 EN (in), 3 COMP (in), 4 CSH, 5 RCT (in), 6 AGND (power), 7 OVP (in), 8 nDIM (in), 9 DDRV (out), 10 PGND (power), 11 GATE (out), 12 VCC (power), 13 IS (in), 14 RPD (oc), 15 HSP (in), 16 HSN (in), 17 EP (power)

## LM3423MH
designator U?
N-Channel Controllers for Constant Current LED Drivers; PartNumber: LM3423MH; Manufacturer: National Semiconductor; CompType: MiscPower; PackageTopMarking: NSUZXYTT*LM3423*MH; PowerWise: Y; Published: 4-Dec-2008; DatasheetVersion: Jul-2008; PackageVersion: revC, Jul-2006; PackageReference: MXA20A; Publisher: Altium Limited; PackageDescription: Molded TSSOP, Jedec, 6.5 x 4.4 x 0.9mm Body, 20 Lead, 0.65mm Pitch, Exposed Pad; RoHS: Y; PinCount: 20; DigiKeyPartNumber: LM3423MH-ND; Code_JEDEC: MO-153-ACT; ComponentLink1Description: LM3423 Datasheet; ComponentLink1URL: http://www.national.com/ds/LM/LM3423.pdf; ComponentLink2Description: LM3423 Web Page; ComponentLink2URL: http://www.national.com/pf/LM/LM3423.html; ComponentLink3Description: MXA20A Package Page; ComponentLink3URL: http://www.national.com/packaging/folders/mxa20a.html
footprint MXA20A_N (TSOP, 20-Leads, Body 6.5x4.4mm, Pitch 0.65mm, Exposed Pad, IPC Medium Density)
footprint MXA20A_L (TSOP, 20-Leads, Body 6.5x4.4mm, Pitch 0.65mm, Exposed Pad, IPC High Density)
footprint MXA20A_M (TSOP, 20-Leads, Body 6.5x4.4mm, Pitch 0.65mm, Exposed Pad, IPC Low Density)
pins: 1 VIN (power), 2 EN (in), 3 COMP (in), 4 CSH, 5 RCT (in), 6 AGND (power), 7 OVP (in), 8 nDIM (in), 9 FLT (oc), 10 TIMR, 11 LRDY (oc), 12 DPOL, 13 DDRV (out), 14 PGND (power), 15 GATE (out), 16 VCC (power), 17 IS (in), 18 RPD (oc), 19 HSP (in), 20 HSN (in), 21 EP (power)

## LM3430SD
designator U?
Boost Controller for LED Backlighting; PartNumber: LM3430SD; Manufacturer: National Semiconductor; CompType: MiscPower; PackageTopMarking: ZXYTT*L3430; PowerWise: Y; Published: 4-Dec-2008; DatasheetVersion: Jan-2007; PackageVersion: revB, Jul-2008; PackageReference: SDF12A; Publisher: Altium Limited; PackageDescription: LLP, Plastic, Dual, 3 x 3 x 0.8mm Body, 12 Lead, 0.4mm Pitch, No Pullback; RoHS: O; PinCount: 12; DigiKeyPartNumber: LM3430SDCT-ND; ComponentLink1Description: LM3430 Datasheet; ComponentLink1URL: http://www.national.com/ds/LM/LM3430.pdf; ComponentLink2Description: LM3430 Web Page; ComponentLink2URL: http://www.national.com/pf/LM/LM3430.html; ComponentLink3Description: SDF12A Package Page; ComponentLink3URL: http://www.national.com/packaging/folders/sdf12a.html
footprint SDF12A (SON, 12-Leads, Body 3x3mm, Pitch 0.4mm, NSC Recommended)
pins: 1 VDHC (in), 2 VIN (power), 3 FB (in), 4 COMP, 5 VCC (power), 6 OUT (out), 7 GND (power), 8 UVLO (in), 9 CS (in), 10 RT/SYNC (in), 11 SS (in), 12 NC, 13 EP (power)

## LM3431AMH
designator U?
3-Channel Constant Current LED Driver with Integrated Boost Controller; PartNumber: LM3431AMH; Manufacturer: National Semiconductor; CompType: MiscPower; PackageTopMarking: NSUZXYTT*LM3431AMH; PowerWise: Y; Published: 4-Dec-2008; DatasheetVersion: Mar-2009; PackageVersion: revD, Oct-2003; PackageReference: MXA28A; Publisher: Altium Limited; PackageDescription: Molded TSSOP, Jedec, 9.7 x 4.4 x 0.9mm Body, 28 Lead, 0.65mm Pitch, Exposed Pad; RoHS: Y; PinCount: 28; DigiKeyPartNumber: LM3431AMH-ND; Code_JEDEC: MO-153-AET; ComponentLink1Description: LM3431 Datasheet; ComponentLink1URL: http://www.national.com/ds/LM/LM3431.pdf; ComponentLink2Description: LM3431 Web Page; ComponentLink2URL: http://www.national.com/pf/LM/LM3431.html; ComponentLink3Description: MXA28A Package Page; ComponentLink3URL: http://www.national.com/packaging/folders/mxa28a.html
footprint MXA28A_N (TSOP, 28-Leads, Body 9.7x4.4mm, Pitch 0.65mm, Exposed Pad, IPC Medium Density)
footprint MXA28A_L (TSOP, 28-Leads, Body 9.7x4.4mm, Pitch 0.65mm, Exposed Pad, IPC High Density)
footprint MXA28A_M (TSOP, 28-Leads, Body 9.7x4.4mm, Pitch 0.65mm, Exposed Pad, IPC Low Density)
pins: 1 VIN (power), 2 PGND (power), 3 VCC (power), 4 LG (out), 5 CS (in), 6 ILIM (in), 7 MODE/F (in), 8 FF, 9 RT (in), 10 REF (out), 11 REFIN (in), 12 COMP, 13 SGND (power), 14 AFB (in), 15 SS/SH (in), 16 DLY (in), 17 CFB (in), 18 SC (in), 19 LEDOFF, 20 SNS3 (in), 21 NDRV3 (out), 22 SNS2 (in), 23 NDRV2 (out), 24 SNS1 (in), 25 NDRV1 (out), 26 THM (in), 27 DIM (in), 28 EN (in), 29 DAP (power)

## LM3431AQMH
designator U?
3-Channel Constant Current LED Driver with Integrated Boost Controller, Automotive Grade 1; PartNumber: LM3431AQMH; Manufacturer: National Semiconductor; CompType: MiscPower; PackageTopMarking: NSUZXYTT*LM3431*AQMH; PowerWise: N; Published: 29-May-2009; DatasheetVersion: Mar-2009; PackageVersion: revD, Oct-2003; PackageReference: MXA28A; Publisher: Altium Limited; PackageDescription: Molded TSSOP, Jedec, 9.7 x 4.4 x 0.9mm Body, 28 Lead, 0.65mm Pitch, Exposed Pad; RoHS: Y; PinCount: 28; Code_JEDEC: MO-153-AET; ComponentLink1Description: LM3431 Datasheet; ComponentLink1URL: http://www.national.com/ds/LM/LM3431.pdf; ComponentLink2Description: LM3431 Web Page; ComponentLink2URL: http://www.national.com/pf/LM/LM3431.html; ComponentLink3Description: MXA28A Package Page; ComponentLink3URL: http://www.national.com/packaging/folders/mxa28a.html
footprint MXA28A_N (TSOP, 28-Leads, Body 9.7x4.4mm, Pitch 0.65mm, Exposed Pad, IPC Medium Density)
footprint MXA28A_L (TSOP, 28-Leads, Body 9.7x4.4mm, Pitch 0.65mm, Exposed Pad, IPC High Density)
footprint MXA28A_M (TSOP, 28-Leads, Body 9.7x4.4mm, Pitch 0.65mm, Exposed Pad, IPC Low Density)
pins: 1 VIN (power), 2 PGND (power), 3 VCC (power), 4 LG (out), 5 CS (in), 6 ILIM (in), 7 MODE/F (in), 8 FF, 9 RT (in), 10 REF (out), 11 REFIN (in), 12 COMP, 13 SGND (power), 14 AFB (in), 15 SS/SH (in), 16 DLY (in), 17 CFB (in), 18 SC (in), 19 LEDOFF, 20 SNS3 (in), 21 NDRV3 (out), 22 SNS2 (in), 23 NDRV2 (out), 24 SNS1 (in), 25 NDRV1 (out), 26 THM (in), 27 DIM (in), 28 EN (in), 29 DAP (power)

## LM3431MH
designator U?
3-Channel Constant Current LED Driver with Integrated Boost Controller; PartNumber: LM3431MH; Manufacturer: National Semiconductor; CompType: MiscPower; PackageTopMarking: NSUZXYTT*LM3431MH; PowerWise: Y; Published: 4-Dec-2008; DatasheetVersion: Mar-2009; PackageVersion: revD, Oct-2003; PackageReference: MXA28A; Publisher: Altium Limited; PackageDescription: Molded TSSOP, Jedec, 9.7 x 4.4 x 0.9mm Body, 28 Lead, 0.65mm Pitch, Exposed Pad; RoHS: Y; PinCount: 28; DigiKeyPartNumber: LM3431MH-ND; Code_JEDEC: MO-153-AET; ComponentLink1Description: LM3431 Datasheet; ComponentLink1URL: http://www.national.com/ds/LM/LM3431.pdf; ComponentLink2Description: LM3431 Web Page; ComponentLink2URL: http://www.national.com/pf/LM/LM3431.html; ComponentLink3Description: MXA28A Package Page; ComponentLink3URL: http://www.national.com/packaging/folders/mxa28a.html
footprint MXA28A_N (TSOP, 28-Leads, Body 9.7x4.4mm, Pitch 0.65mm, Exposed Pad, IPC Medium Density)
footprint MXA28A_L (TSOP, 28-Leads, Body 9.7x4.4mm, Pitch 0.65mm, Exposed Pad, IPC High Density)
footprint MXA28A_M (TSOP, 28-Leads, Body 9.7x4.4mm, Pitch 0.65mm, Exposed Pad, IPC Low Density)
pins: 1 VIN (power), 2 PGND (power), 3 VCC (power), 4 LG (out), 5 CS (in), 6 ILIM (in), 7 MODE/F (in), 8 FF, 9 RT (in), 10 REF (out), 11 REFIN (in), 12 COMP, 13 SGND (power), 14 AFB (in), 15 SS/SH (in), 16 DLY (in), 17 CFB (in), 18 SC (in), 19 LEDOFF, 20 SNS3 (in), 21 NDRV3 (out), 22 SNS2 (in), 23 NDRV2 (out), 24 SNS1 (in), 25 NDRV1 (out), 26 THM (in), 27 DIM (in), 28 EN (in), 29 DAP (power)

## LM3431QMH
designator U?
3-Channel Constant Current LED Driver with Integrated Boost Controller, Automotive Grade 1; PartNumber: LM3431QMH; Manufacturer: National Semiconductor; CompType: MiscPower; PackageTopMarking: NSUZXYTT*LM3431*QMH; PowerWise: N; Published: 29-May-2009; DatasheetVersion: Mar-2009; PackageVersion: revD, Oct-2003; PackageReference: MXA28A; Publisher: Altium Limited; PackageDescription: Molded TSSOP, Jedec, 9.7 x 4.4 x 0.9mm Body, 28 Lead, 0.65mm Pitch, Exposed Pad; RoHS: Y; PinCount: 28; Code_JEDEC: MO-153-AET; ComponentLink1Description: LM3431 Datasheet; ComponentLink1URL: http://www.national.com/ds/LM/LM3431.pdf; ComponentLink2Description: LM3431 Web Page; ComponentLink2URL: http://www.national.com/pf/LM/LM3431.html; ComponentLink3Description: MXA28A Package Page; ComponentLink3URL: http://www.national.com/packaging/folders/mxa28a.html
footprint MXA28A_N (TSOP, 28-Leads, Body 9.7x4.4mm, Pitch 0.65mm, Exposed Pad, IPC Medium Density)
footprint MXA28A_L (TSOP, 28-Leads, Body 9.7x4.4mm, Pitch 0.65mm, Exposed Pad, IPC High Density)
footprint MXA28A_M (TSOP, 28-Leads, Body 9.7x4.4mm, Pitch 0.65mm, Exposed Pad, IPC Low Density)
pins: 1 VIN (power), 2 PGND (power), 3 VCC (power), 4 LG (out), 5 CS (in), 6 ILIM (in), 7 MODE/F (in), 8 FF, 9 RT (in), 10 REF (out), 11 REFIN (in), 12 COMP, 13 SGND (power), 14 AFB (in), 15 SS/SH (in), 16 DLY (in), 17 CFB (in), 18 SC (in), 19 LEDOFF, 20 SNS3 (in), 21 NDRV3 (out), 22 SNS2 (in), 23 NDRV2 (out), 24 SNS1 (in), 25 NDRV1 (out), 26 THM (in), 27 DIM (in), 28 EN (in), 29 DAP (power)

## LM3432BSQ
designator U?
6-Channel Current Regulator for LED Backlight Application; PartNumber: LM3432BSQ; Manufacturer: National Semiconductor; CompType: MiscPower; PackageTopMarking: NS*UZXYTT*3432BSQ; PowerWise: N; Published: 4-Dec-2008; DatasheetVersion: May-2008; PackageVersion: revA, Oct-2003; PackageReference: SQA24B; Publisher: Altium Limited; PackageDescription: LLP, Plastic, Quad, 5 x 4 x 0.8mm Body, 24 Lead, 0.5mm Pitch, No Pullback; RoHS: Y; PinCount: 24; Code_JEDEC: MO-220-WGHD-1; ComponentLink1Description: LM3432B Datasheet; ComponentLink1URL: http://www.national.com/ds/LM/LM3432.pdf; ComponentLink2Description: LM3432B Web Page; ComponentLink2URL: http://www.national.com/pf/LM/LM3432B.html; ComponentLink3Description: SQA24B Package Page; ComponentLink3URL: http://www.national.com/packaging/folders/sqa24b.html
footprint SQA24B (QFN, 24-Leads, Body 5x4mm, Pitch 0.5mm, NSC Recommended)
pins: 1 VCC (power), 2 IREF (in), 3 AGND (power), 4 CDHC, 5 VDHC (out), 6 EN (in), 7 MODE (in), 8 DIM, 9 FAULTb (oc), 10 OTMb (oc), 11 NC, 12 IOUT1 (oc), 13 IOUT2 (oc), 14 NC, 15 IOUT3 (oc), 16 NC, 17 IOUT4 (oc), 18 NC, 19 IOUT5 (oc), 20 IOUT6 (oc), 21 NC, 22 PGND (power), 23 NC, 24 VIN (power), 25 EP (power)

## LM3432MH
designator U?
6-Channel Current Regulator for LED Backlight Application; PartNumber: LM3432MH; Manufacturer: National Semiconductor; CompType: MiscPower; PackageTopMarking: NSUZXYTT*LM3432*MH; PowerWise: N; Published: 4-Dec-2008; DatasheetVersion: May-2008; PackageVersion: revD, Oct-2003; PackageReference: MXA28A; Publisher: Altium Limited; PackageDescription: Molded TSSOP, Jedec, 9.7 x 4.4 x 0.9mm Body, 28 Lead, 0.65mm Pitch, Exposed Pad; RoHS: Y; PinCount: 28; DigiKeyPartNumber: LM3432MH-ND; Code_JEDEC: MO-153-AET; ComponentLink1Description: LM3432 Datasheet; ComponentLink1URL: http://www.national.com/ds/LM/LM3432.pdf; ComponentLink2Description: LM3432 Web Page; ComponentLink2URL: http://www.national.com/pf/LM/LM3432.html; ComponentLink3Description: MXA28A Package Page; ComponentLink3URL: http://www.national.com/packaging/folders/mxa28a.html
footprint MXA28A_N (TSOP, 28-Leads, Body 9.7x4.4mm, Pitch 0.65mm, Exposed Pad, IPC Medium Density)
footprint MXA28A_L (TSOP, 28-Leads, Body 9.7x4.4mm, Pitch 0.65mm, Exposed Pad, IPC High Density)
footprint MXA28A_M (TSOP, 28-Leads, Body 9.7x4.4mm, Pitch 0.65mm, Exposed Pad, IPC Low Density)
pins: 1 VIN (power), 2 NC, 3 NC, 4 NC, 5 VCC (power), 6 IREF (in), 7 AGND (power), 8 CDHC, 9 VDHC (out), 10 EN (in), 11 MODE (in), 12 DIM, 13 FAULTb (oc), 14 OTMb (oc), 15 IOUT1 (oc), 16 NC, 17 IOUT2 (oc), 18 NC, 19 IOUT3 (oc), 20 NC, 21 IOUT4 (oc), 22 NC, 23 IOUT5 (oc), 24 NC, 25 IOUT6 (oc), 26 NC, 27 PGND (power), 28 PGND (power), 29 EP (power)

## LM3432SQ
designator U?
6-Channel Current Regulator for LED Backlight Application; PartNumber: LM3432SQ; Manufacturer: National Semiconductor; CompType: MiscPower; PackageTopMarking: NS*UZXYTT*L3432SQ; PowerWise: N; Published: 4-Dec-2008; DatasheetVersion: May-2008; PackageVersion: revA, Oct-2003; PackageReference: SQA24B; Publisher: Altium Limited; PackageDescription: LLP, Plastic, Quad, 5 x 4 x 0.8mm Body, 24 Lead, 0.5mm Pitch, No Pullback; RoHS: Y; PinCount: 24; DigiKeyPartNumber: LM3432SQCT-ND; Code_JEDEC: MO-220-WGHD-1; ComponentLink1Description: LM3432 Datasheet; ComponentLink1URL: http://www.national.com/ds/LM/LM3432.pdf; ComponentLink2Description: LM3432 Web Page; ComponentLink2URL: http://www.national.com/pf/LM/LM3432.html; ComponentLink3Description: SQA24B Package Page; ComponentLink3URL: http://www.national.com/packaging/folders/sqa24b.html
footprint SQA24B (QFN, 24-Leads, Body 5x4mm, Pitch 0.5mm, NSC Recommended)
pins: 1 VCC (power), 2 IREF (in), 3 AGND (power), 4 CDHC, 5 VDHC (out), 6 EN (in), 7 MODE (in), 8 DIM, 9 FAULTb (oc), 10 OTMb (oc), 11 NC, 12 IOUT1 (oc), 13 IOUT2 (oc), 14 NC, 15 IOUT3 (oc), 16 NC, 17 IOUT4 (oc), 18 NC, 19 IOUT5 (oc), 20 IOUT6 (oc), 21 NC, 22 PGND (power), 23 NC, 24 VIN (power), 25 EP (power)

## LM3433SQ
designator U?
Common Anode Capable High Brightness LED Driver with High Frequency Dimming; PartNumber: LM3433SQ; Manufacturer: National Semiconductor; CompType: MiscPower; PackageTopMarking: NS*UZXYTT*L3433SQ; PowerWise: Y; Published: 4-Dec-2008; DatasheetVersion: Mar-2008; PackageVersion: revB, Aug-2003; PackageReference: SQA24A; Publisher: Altium Limited; PackageDescription: LLP, Plastic, Quad, 4 x 4 x 0.8mm Body, 24 Lead, 0.5mm Pitch, No Pullback; RoHS: Y; PinCount: 24; DigiKeyPartNumber: LM3433SQCT-ND; Code_JEDEC: MO-220-WGGD-6; ComponentLink1Description: LM3433 Datasheet; ComponentLink1URL: http://www.national.com/ds/LM/LM3433.pdf; ComponentLink2Description: LM3433 Web Page; ComponentLink2URL: http://www.national.com/pf/LM/LM3433.html; ComponentLink3Description: SQA24A Package Page; ComponentLink3URL: http://www.national.com/packaging/folders/sqa24a.html
footprint SQA24A (QFN, 24-Leads, Body 4x4mm, Pitch 0.5mm, NSC Recommended)
pins: 1 TON (in), 2 ADJ (in), 3 EN (in), 4 DIM (in), 5 VIN (power), 6 CGND (power), 7 VEE (power), 8 COMP, 9 NC, 10 SS, 11 NC, 12 NC, 13 LS (in), 14 LO (out), 15 VCC (power), 16 BST (in), 17 HO (out), 18 HS (in), 19 DIMR (in), 20 DIMO (out), 21 BST2, 22 NC, 23 CSN (in), 24 CSP (in), 25 EP (power)

## LM3445MM
designator U?
Triac Dimmable Offline LED Driver, PowerWise; PartNumber: LM3445MM; Manufacturer: National Semiconductor; CompType: MiscPower; PackageTopMarking: ZXTT*SULB; PowerWise: Y; Published: 29-May-2009; DatasheetVersion: Mar-2009; PackageVersion: revB, Jul-2003; PackageReference: MUB10A; Publisher: Altium Limited; PackageDescription: Mini-SO, Molded, .118 x .118 x .034in Body, 10 Lead, .0197in Pitch; RoHS: Y; PinCount: 10; DigiKeyPartNumber: LM3445MMCT-ND; Code_JEDEC: MO-187-BA; ComponentLink1Description: LM3445 Datasheet; ComponentLink1URL: http://www.national.com/ds/LM/LM3445.pdf; ComponentLink2Description: LM3445 Web Page; ComponentLink2URL: http://www.national.com/pf/LM/LM3445.html; ComponentLink3Description: MUB10A Package Page; ComponentLink3URL: http://www.national.com/packaging/folders/mub10a.html
footprint MUB10A_N (TSSOP, 10-Leads, Body 3x3mm, Pitch 0.5mm, IPC Medium Density)
footprint MUB10A_L (TSSOP, 10-Leads, Body 3x3mm, Pitch 0.5mm, IPC High Density)
footprint MUB10A_M (TSSOP, 10-Leads, Body 3x3mm, Pitch 0.5mm, IPC Low Density)
pins: 1 ASNS (out), 2 FLTR1 (in), 3 DIM (io), 4 COFF (in), 5 FLTR2 (in), 6 GND (power), 7 ISNS (in), 8 GATE (out), 9 VCC (power), 10 BLDR (in)

## LM3460M5-1.5
designator U?
Precision Controller for GTLp and GTL Bus Termination; PartNumber: LM3460M5-1.5; Manufacturer: National Semiconductor; CompType: MiscPower; PackageTopMarking: D06A*XTT; Published: 4-Dec-2008; DatasheetVersion: Mar-2005; PackageVersion: revD, Aug-2008; PackageReference: MF05A; Publisher: Altium Limited; PackageDescription: Molded SOT-23, .115 x .063 x .040 in Body, 5 Lead, .0375 in Pitch; RoHS: Y; PinCount: 5; DigiKeyPartNumber: LM3460M5-1.5CT-ND; ComponentLink1Description: LM3460 Datasheet; ComponentLink1URL: http://www.national.com/ds/LM/LM3460.pdf; ComponentLink2Description: LM3460 Web Page; ComponentLink2URL: http://www.national.com/pf/LM/LM3460.html; ComponentLink3Description: MF05A Package Page; ComponentLink3URL: http://www.national.com/packaging/folders/mf05a.html
footprint MF05A_N (SOT23, 5-Leads, Body 2.9x1.6mm, Pitch 0.95mm, Lead Span 2.8mm, IPC Medium Density)
footprint MF05A_L (SOT23, 5-Leads, Body 2.9x1.6mm, Pitch 0.95mm, Lead Span 2.8mm, IPC High Density)
footprint MF05A_M (SOT23, 5-Leads, Body 2.9x1.6mm, Pitch 0.95mm, Lead Span 2.8mm, IPC Low Density)
pins: 1 IN+ (power), 2 GND (power), 3 NC, 4 COMP (in), 5 OUT (power)

## LM3475MF
designator U?
Hysteretic PFET Buck Controller; PartNumber: LM3475MF; Manufacturer: National Semiconductor; CompType: MiscPower; PackageTopMarking: S65B*XTT; PowerWise: N; Published: 4-Dec-2008; DatasheetVersion: Jan-2005; PackageVersion: revD, Aug-2008; PackageReference: MF05A; Publisher: Altium Limited; PackageDescription: Molded SOT-23, .115 x .063 x .040 in Body, 5 Lead, .0375 in Pitch; RoHS: O; PinCount: 5; DigiKeyPartNumber: LM3475MFCT-ND; ComponentLink1Description: LM3475 Datasheet; ComponentLink1URL: http://www.national.com/ds/LM/LM3475.pdf; ComponentLink2Description: LM3475 Web Page; ComponentLink2URL: http://www.national.com/pf/LM/LM3475.html; ComponentLink3Description: MF05A Package Page; ComponentLink3URL: http://www.national.com/packaging/folders/mf05a.html
footprint MF05A_N (SOT23, 5-Leads, Body 2.9x1.6mm, Pitch 0.95mm, Lead Span 2.8mm, IPC Medium Density)
footprint MF05A_L (SOT23, 5-Leads, Body 2.9x1.6mm, Pitch 0.95mm, Lead Span 2.8mm, IPC High Density)
footprint MF05A_M (SOT23, 5-Leads, Body 2.9x1.6mm, Pitch 0.95mm, Lead Span 2.8mm, IPC Low Density)
pins: 1 FB (in), 2 GND (power), 3 EN (in), 4 IN (power), 5 PGATE (power)

## LM3478MM
designator U?
High Efficiency Low-Side N-Channel Controller for Switching Regulator; PartNumber: LM3478MM; Manufacturer: National Semiconductor; CompType: MiscPower; PackageTopMarking: ZXTT*S14B; PowerWise: N; Published: 4-Dec-2008; DatasheetVersion: Mar-2009; PackageVersion: revF, Apr-2008; PackageReference: MUA08A; Publisher: Altium Limited; PackageDescription: MINI SOIC, .118 x .118 x .034in, 8 Lead, .0256in Pitch; RoHS: O; PinCount: 8; DigiKeyPartNumber: LM3478MMCT-ND; Code_JEDEC: MO-187-AA; ComponentLink1Description: LM3478 Datasheet; ComponentLink1URL: http://www.national.com/ds/LM/LM3478.pdf; ComponentLink2Description: LM3478 Web Page; ComponentLink2URL: http://www.national.com/pf/LM/LM3478.html; ComponentLink3Description: MUA08A Package Page; ComponentLink3URL: http://www.national.com/packaging/folders/mua08a.html
footprint MUA08A_N (TSOP, 8-Leads, Body 3x3mm, Pitch 0.65mm, IPC Medium Density)
footprint MUA08A_L (TSOP, 8-Leads, Body 3x3mm, Pitch 0.65mm, IPC High Density)
footprint MUA08A_M (TSOP, 8-Leads, Body 3x3mm, Pitch 0.65mm, IPC Low Density)
pins: 1 ISEN (in), 2 COMP, 3 FB (in), 4 AGND (power), 5 PGND (power), 6 DR (out), 7 FA/SD (in), 8 VIN (power)

## LM3478QMM
designator U?
High Efficiency Low-Side N-Channel Controller for Switching Regulator, Automotive Grade 1; PartNumber: LM3478QMM; Manufacturer: National Semiconductor; CompType: MiscPower; PackageTopMarking: ZXTT*SSFB; PowerWise: N; Published: 29-May-2009; DatasheetVersion: Mar-2009; PackageVersion: revF, Apr-2008; PackageReference: MUA08A; Publisher: Altium Limited; PackageDescription: MINI SOIC, .118 x .118 x .034in, 8 Lead, .0256in Pitch; RoHS: Y; PinCount: 8; DigiKeyPartNumber: LM3478QMMCT-ND; Code_JEDEC: MO-187-AA; ComponentLink1Description: LM3478 Datasheet; ComponentLink1URL: http://www.national.com/ds/LM/LM3478.pdf; ComponentLink2Description: LM3478 Web Page; ComponentLink2URL: http://www.national.com/mpf/LM/LM3478Q.html; ComponentLink3Description: MUA08A Package Page; ComponentLink3URL: http://www.national.com/packaging/folders/mua08a.html
footprint MUA08A_N (TSOP, 8-Leads, Body 3x3mm, Pitch 0.65mm, IPC Medium Density)
footprint MUA08A_L (TSOP, 8-Leads, Body 3x3mm, Pitch 0.65mm, IPC High Density)
footprint MUA08A_M (TSOP, 8-Leads, Body 3x3mm, Pitch 0.65mm, IPC Low Density)
pins: 1 ISEN (in), 2 COMP, 3 FB (in), 4 AGND (power), 5 PGND (power), 6 DR (out), 7 FA/SD (in), 8 VIN (power)